# Altium footprint library Hall Effect Sensor Panel PCB Lib.PcbLib: 8 footprints
Each footprint in its own frame and in the unit in brackets; x right, y up, seen from the top. Pads: shape width x height; smd on the part's side, far side on the other; paste and mask are expansions set on the pad; w line width, h text height; cw(c..) or ccw(c..) is an arc to the next point about the centre after c.
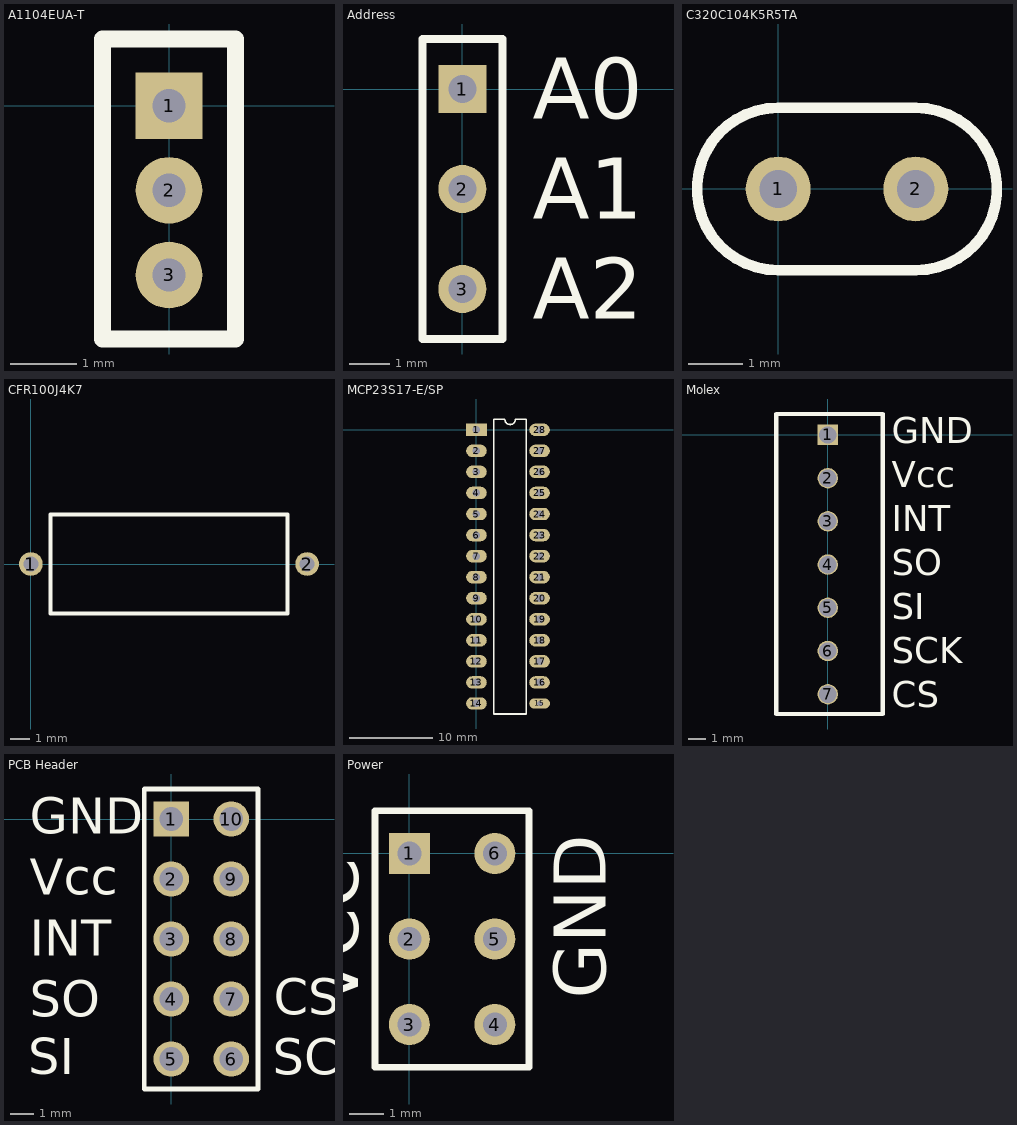
[diagram p0: the footprints below, top view; thin cyan lines are the x and y axes]

## A1104EUA-T [mm]
pads (3):
  rect 1x1 hole 0.5: 1(0,0)
  round 1 hole 0.5: 2(0,-1.27) 3(0,-2.54)
Top Overlay:
  lines w0.254: -1,-3.5 -1,1 1,1 1,-3.5 -1,-3.5

## Address [mm]
pads (3):
  rect 1.2x1.2 hole 0.7: 1(0,0)
  round 1.2 hole 0.7: 2(0,-2.5) 3(0,-5)
Top Overlay:
  lines w0.2: 0.625,1.25 1,1.25 ; 1,1.25 -1,1.25 -1,-6.25 1,-6.25 1,1.25
  text "A0" at 1.754,-0.746 h1.52
  text "A1" at 1.754,-3.246 h1.52
  text "A2" at 1.754,-5.746 h1.52

## C320C104K5R5TA [mm]
pads (2):
  round 1.2 hole 0.7: 1(0,0) 2(2.54,0)
Top Overlay:
  lines w0.2: 0,-1.5 cw(c0,0) 0,1.5 2.54,1.5 cw(c2.54,0) 2.54,-1.5 0,-1.5

## CFR100J4K7 [mm]
pads (2):
  round 1.2 hole 0.76: 1(0,0) 2(14,0)
Top Overlay:
  lines w0.2: 1,-2.5 13,-2.5 13,2.5 1,2.5 1,0 1,-2.5

## MCP23S17-E/SP [mm]
pads (28):
  rect 2.5x1.5 hole 0.9: 1(0,0)
  oval 2.5x1.5 hole 0.9: 2(0,-2.54) 3(0,-5.08) 4(0,-7.62) 5(0,-10.16) 6(0,-12.7) 7(0,-15.24) 8(0,-17.78) 9(0,-20.32) 10(0,-22.86) 11(0,-25.4) 12(0,-27.94) 13(0,-30.48) 14(0,-33.02) 16(7.62,-30.48) 17(7.62,-27.94) 18(7.62,-25.4) 19(7.62,-22.86) 20(7.62,-20.32) 21(7.62,-17.78) 22(7.62,-15.24) 23(7.62,-12.7) 24(7.62,-10.16) 25(7.62,-7.62) 26(7.62,-5.08) 27(7.62,-2.54) 28(7.62,0)
  oval 2.5x1.2 hole 0.65: 15(7.62,-33.02)
Top Overlay:
  lines w0.2: 2.085,-34.29 2.085,1.27 3.43,1.27 ccw(c4.065,1.27) 4.7,1.27 6,1.27 6,-34.29 2.085,-34.29

## Molex [mm]
pads (7):
  rect 1.2x1.2 hole 1.02: 1(0,0)
  round 1.2 hole 1.02: 2(0,-2.54) 3(0,-5.08) 4(0,-7.62) 5(0,-10.16) 6(0,-12.7) 7(0,-15.24)
Top Overlay:
  lines w0.254: -3.025,-16.4 3.225,-16.4 3.225,1.23 -3.025,1.23 -3.025,-16.4
  text "INT" at 3.754,-5.663 h1.52
  text "SO" at 3.754,-8.246 h1.52
  text "Vcc" at 3.754,-3.079 h1.52
  text "GND" at 3.754,-0.496 h1.52
  text "CS" at 3.754,-15.996 h1.52
  text "SCK" at 3.754,-13.413 h1.52
  text "SI" at 3.754,-10.829 h1.52

## PCB Header [mm]
pads (10):
  rect 1.5x1.5 / inner rect 1.5x1.6 / far side rect 1.5x1.5 hole 1: 1(0,0)
  round 1.5 / inner oval 1.5x1.6 / far side round 1.5 hole 1: 2(0,-2.54) 3(0,-5.08) 4(0,-7.62) 5(0,-10.16) 6(2.54,-10.16) 7(2.54,-7.62) 8(2.54,-5.08) 9(2.54,-2.54) 10(2.54,0)
Top Overlay:
  lines w0.2: 0.635,1.27 3.675,1.27 3.675,-11.43 -1.15,-11.43 -1.15,1.27 1.905,1.27
  text "INT" at -5.996,-5.788 h1.52
  text "SO" at -5.996,-8.371 h1.52
  text "Vcc" at -5.996,-3.204 h1.52
  text "GND" at -5.996,-0.621 h1.52
  text "CS" at 4.329,-8.296 h1.52
  text "SCK" at 4.304,-10.821 h1.52
  text "SI" at -6.046,-10.804 h1.52

## Power [mm]
pads (6):
  rect 1.2x1.2 hole 0.7: 1(0,0)
  round 1.2 hole 0.7: 2(0,-2.5) 3(0,-5) 4(2.5,-5) 5(2.5,-2.5) 6(2.5,0)
Top Overlay:
  lines w0.2: 0.625,1.25 3.5,1.25 3.5,-6.25 -1,-6.25 -1,1.25 1.875,1.25
  text "VCC" at -1.5,-4.5 h1.52
  text "GND" at 5.746,-4.246 h1.52